# Altium footprint library Connector_PinSocket_2.54mm.PcbLib: 278 footprints (part 17 of 18)
Each footprint in its own frame and in the unit in brackets; x right, y up, seen from the top. Pads: shape width x height; smd on the part's side, far side on the other; paste and mask are expansions set on the pad; w line width, h text height; cw(c..) or ccw(c..) is an arc to the next point about the centre after c.
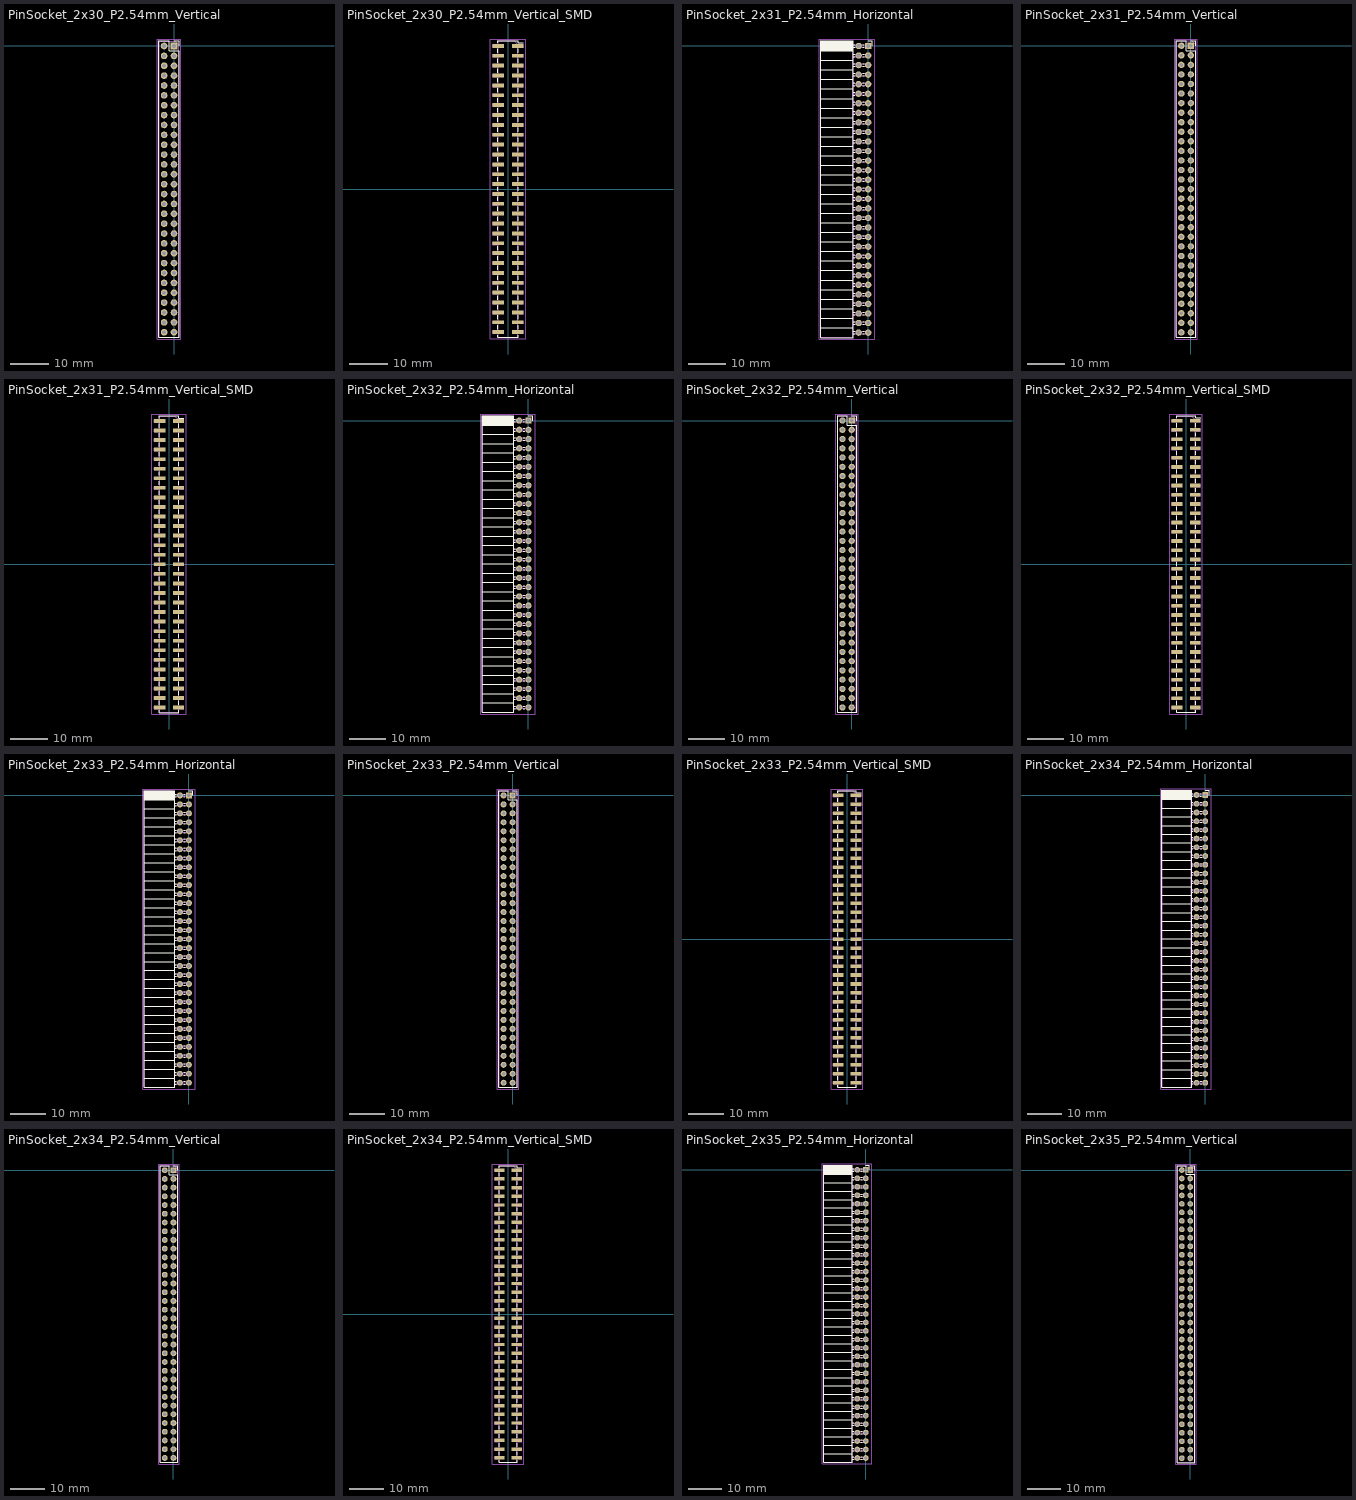
[diagram p16: the footprints below, top view; thin cyan lines are the x and y axes]

## PinSocket_2x30_P2.54mm_Vertical [mm]
pads (60):
  rect 1.7x1.7 hole 1: 1(0,0)
  round 1.7 hole 1: 2(-2.54,0) 3(0,-2.54) 4(-2.54,-2.54) 5(0,-5.08) 6(-2.54,-5.08) 7(0,-7.62) 8(-2.54,-7.62) 9(0,-10.16) 10(-2.54,-10.16) 11(0,-12.7) 12(-2.54,-12.7) 13(0,-15.24) 14(-2.54,-15.24) 15(0,-17.78) 16(-2.54,-17.78) 17(0,-20.32) 18(-2.54,-20.32) 19(0,-22.86) 20(-2.54,-22.86) 21(0,-25.4) 22(-2.54,-25.4) 23(0,-27.94) 24(-2.54,-27.94) 25(0,-30.48) 26(-2.54,-30.48) 27(0,-33.02) 28(-2.54,-33.02) 29(0,-35.56) 30(-2.54,-35.56) 31(0,-38.1) 32(-2.54,-38.1) 33(0,-40.64) 34(-2.54,-40.64) 35(0,-43.18) 36(-2.54,-43.18) 37(0,-45.72) 38(-2.54,-45.72) 39(0,-48.26) 40(-2.54,-48.26) 41(0,-50.8) 42(-2.54,-50.8) 43(0,-53.34) 44(-2.54,-53.34) 45(0,-55.88) 46(-2.54,-55.88) 47(0,-58.42) 48(-2.54,-58.42) 49(0,-60.96) 50(-2.54,-60.96) 51(0,-63.5) 52(-2.54,-63.5) 53(0,-66.04) 54(-2.54,-66.04) 55(0,-68.58) 56(-2.54,-68.58) 57(0,-71.12) 58(-2.54,-71.12) 59(0,-73.66) 60(-2.54,-73.66)
F.SilkS:
  lines w0.254: 0,1.33 1.33,1.33 1.33,0 ; -3.87,-74.99 1.33,-74.99 1.33,-1.27 -1.27,-1.27 -1.27,1.33 -3.87,1.33 -3.87,-74.99
Top Assembly:
  lines w0.254: -3.81,-74.93 1.27,-74.93 1.27,0.27 0.27,1.27 -3.81,1.27 -3.81,-74.93
  text "'.Designator'" at -0.43,-40.877 h1
Top Courtyard:
  lines w0.254: -4.34,-75.4 1.76,-75.4 1.76,1.8 -4.34,1.8 -4.34,-75.4
Top Designator:
  text ".Designator" at -8.908,-37.308 h1.52

## PinSocket_2x30_P2.54mm_Vertical_SMD [mm]
pads (60):
  rect 3x1 smd: 1(2.52,36.83) 2(-2.52,36.83) 3(2.52,34.29) 4(-2.52,34.29) 5(2.52,31.75) 6(-2.52,31.75) 7(2.52,29.21) 8(-2.52,29.21) 9(2.52,26.67) 10(-2.52,26.67) 11(2.52,24.13) 12(-2.52,24.13) 13(2.52,21.59) 14(-2.52,21.59) 15(2.52,19.05) 16(-2.52,19.05) 17(2.52,16.51) 18(-2.52,16.51) 19(2.52,13.97) 20(-2.52,13.97) 21(2.52,11.43) 22(-2.52,11.43) 23(2.52,8.89) 24(-2.52,8.89) 25(2.52,6.35) 26(-2.52,6.35) 27(2.52,3.81) 28(-2.52,3.81) 29(2.52,1.27) 30(-2.52,1.27) 31(2.52,-1.27) 32(-2.52,-1.27) 33(2.52,-3.81) 34(-2.52,-3.81) 35(2.52,-6.35) 36(-2.52,-6.35) 37(2.52,-8.89) 38(-2.52,-8.89) 39(2.52,-11.43) 40(-2.52,-11.43) 41(2.52,-13.97) 42(-2.52,-13.97) 43(2.52,-16.51) 44(-2.52,-16.51) 45(2.52,-19.05) 46(-2.52,-19.05) 47(2.52,-21.59) 48(-2.52,-21.59) 49(2.52,-24.13) 50(-2.52,-24.13) 51(2.52,-26.67) 52(-2.52,-26.67) 53(2.52,-29.21) 54(-2.52,-29.21) 55(2.52,-31.75) 56(-2.52,-31.75) 57(2.52,-34.29) 58(-2.52,-34.29) 59(2.52,-36.83) 60(-2.52,-36.83)
F.SilkS:
  lines w0.254: -2.6,-37.59 -2.6,-38.16 2.6,-38.16 2.6,-37.59 ; -2.6,-36.07 -2.6,-35.05 ; -2.6,-33.53 -2.6,-32.51 ; -2.6,-30.99 -2.6,-29.97 ; -2.6,-28.45 -2.6,-27.43 ; -2.6,-25.91 -2.6,-24.89 ; -2.6,-23.37 -2.6,-22.35 ; -2.6,-20.83 -2.6,-19.81 ; -2.6,-18.29 -2.6,-17.27 ; -2.6,-15.75 -2.6,-14.73 ; -2.6,-13.21 -2.6,-12.19 ; -2.6,-10.67 -2.6,-9.65 ; -2.6,-8.13 -2.6,-7.11 ; -2.6,-5.59 -2.6,-4.57 ; -2.6,-3.05 -2.6,-2.03 ; -2.6,-0.51 -2.6,0.51 ; -2.6,2.03 -2.6,3.05 ; -2.6,4.57 -2.6,5.59 ; -2.6,7.11 -2.6,8.13 ; -2.6,9.65 -2.6,10.67 ; -2.6,12.19 -2.6,13.21 ; -2.6,14.73 -2.6,15.75 ; -2.6,17.27 -2.6,18.29 ; -2.6,19.81 -2.6,20.83 ; -2.6,22.35 -2.6,23.37 ; -2.6,24.89 -2.6,25.91 ; -2.6,27.43 -2.6,28.45 ; -2.6,29.97 -2.6,30.99 ; -2.6,32.51 -2.6,33.53 ; -2.6,35.05 -2.6,36.07 ; -2.6,37.59 -2.6,38.16 2.6,38.16 2.6,37.59 3.96,37.59 ; 2.6,-36.07 2.6,-35.05 ; 2.6,-33.53 2.6,-32.51 ; 2.6,-30.99 2.6,-29.97 ; 2.6,-28.45 2.6,-27.43 ; 2.6,-25.91 2.6,-24.89 ; 2.6,-23.37 2.6,-22.35 ; 2.6,-20.83 2.6,-19.81 ; 2.6,-18.29 2.6,-17.27 ; 2.6,-15.75 2.6,-14.73 ; 2.6,-13.21 2.6,-12.19 ; 2.6,-10.67 2.6,-9.65 ; 2.6,-8.13 2.6,-7.11 ; 2.6,-5.59 2.6,-4.57 ; 2.6,-3.05 2.6,-2.03 ; 2.6,-0.51 2.6,0.51 ; 2.6,2.03 2.6,3.05 ; 2.6,4.57 2.6,5.59 ; 2.6,7.11 2.6,8.13 ; 2.6,9.65 2.6,10.67 ; 2.6,12.19 2.6,13.21 ; 2.6,14.73 2.6,15.75 ; 2.6,17.27 2.6,18.29 ; 2.6,19.81 2.6,20.83 ; 2.6,22.35 2.6,23.37 ; 2.6,24.89 2.6,25.91 ; 2.6,27.43 2.6,28.45 ; 2.6,29.97 2.6,30.99 ; 2.6,32.51 2.6,33.53 ; 2.6,35.05 2.6,36.07
Top Assembly:
  drawing of 185 lines, arcs and shapes, not listed
  text "'.Designator'" at 0.84,-4.047 h1
Top Courtyard:
  lines w0.254: -4.55,-38.6 4.5,-38.6 4.5,38.6 -4.55,38.6 -4.55,-38.6
Top Designator:
  text ".Designator" at -7.643,-0.508 h1.52

## PinSocket_2x31_P2.54mm_Horizontal [mm]
pads (62):
  rect 1.7x1.7 hole 1: 1(0,0)
  round 1.7 hole 1: 2(-2.54,0) 3(0,-2.54) 4(-2.54,-2.54) 5(0,-5.08) 6(-2.54,-5.08) 7(0,-7.62) 8(-2.54,-7.62) 9(0,-10.16) 10(-2.54,-10.16) 11(0,-12.7) 12(-2.54,-12.7) 13(0,-15.24) 14(-2.54,-15.24) 15(0,-17.78) 16(-2.54,-17.78) 17(0,-20.32) 18(-2.54,-20.32) 19(0,-22.86) 20(-2.54,-22.86) 21(0,-25.4) 22(-2.54,-25.4) 23(0,-27.94) 24(-2.54,-27.94) 25(0,-30.48) 26(-2.54,-30.48) 27(0,-33.02) 28(-2.54,-33.02) 29(0,-35.56) 30(-2.54,-35.56) 31(0,-38.1) 32(-2.54,-38.1) 33(0,-40.64) 34(-2.54,-40.64) 35(0,-43.18) 36(-2.54,-43.18) 37(0,-45.72) 38(-2.54,-45.72) 39(0,-48.26) 40(-2.54,-48.26) 41(0,-50.8) 42(-2.54,-50.8) 43(0,-53.34) 44(-2.54,-53.34) 45(0,-55.88) 46(-2.54,-55.88) 47(0,-58.42) 48(-2.54,-58.42) 49(0,-60.96) 50(-2.54,-60.96) 51(0,-63.5) 52(-2.54,-63.5) 53(0,-66.04) 54(-2.54,-66.04) 55(0,-68.58) 56(-2.54,-68.58) 57(0,-71.12) 58(-2.54,-71.12) 59(0,-73.66) 60(-2.54,-73.66) 61(0,-76.2) 62(-2.54,-76.2)
F.SilkS:
  drawing of 181 lines, arcs and shapes, not listed
Top Assembly:
  lines w0.254: -4.06,-76.5 0,-76.5 0,-75.9 -4.06,-75.9 ; -4.06,-73.96 0,-73.96 0,-73.36 -4.06,-73.36 ; -4.06,-71.42 0,-71.42 0,-70.82 -4.06,-70.82 ; -4.06,-68.88 0,-68.88 0,-68.28 -4.06,-68.28 ; -4.06,-66.34 0,-66.34 0,-65.74 -4.06,-65.74 ; -4.06,-63.8 0,-63.8 0,-63.2 -4.06,-63.2 ; -4.06,-61.26 0,-61.26 0,-60.66 -4.06,-60.66 ; -4.06,-58.72 0,-58.72 0,-58.12 -4.06,-58.12 ; -4.06,-56.18 0,-56.18 0,-55.58 -4.06,-55.58 ; -4.06,-53.64 0,-53.64 0,-53.04 -4.06,-53.04 ; -4.06,-51.1 0,-51.1 0,-50.5 -4.06,-50.5 ; -4.06,-48.56 0,-48.56 0,-47.96 -4.06,-47.96 ; -4.06,-46.02 0,-46.02 0,-45.42 -4.06,-45.42 ; -4.06,-43.48 0,-43.48 0,-42.88 -4.06,-42.88 ; -4.06,-40.94 0,-40.94 0,-40.34 -4.06,-40.34 ; -4.06,-38.4 0,-38.4 0,-37.8 -4.06,-37.8 ; -4.06,-35.86 0,-35.86 0,-35.26 -4.06,-35.26 ; -4.06,-33.32 0,-33.32 0,-32.72 -4.06,-32.72 ; -4.06,-30.78 0,-30.78 0,-30.18 -4.06,-30.18 ; -4.06,-28.24 0,-28.24 0,-27.64 -4.06,-27.64 ; -4.06,-25.7 0,-25.7 0,-25.1 -4.06,-25.1 ; -4.06,-23.16 0,-23.16 0,-22.56 -4.06,-22.56 ; -4.06,-20.62 0,-20.62 0,-20.02 -4.06,-20.02 ; -4.06,-18.08 0,-18.08 0,-17.48 -4.06,-17.48 ; -4.06,-15.54 0,-15.54 0,-14.94 -4.06,-14.94 ; -4.06,-13 0,-13 0,-12.4 -4.06,-12.4 ; -4.06,-10.46 0,-10.46 0,-9.86 -4.06,-9.86 ; -4.06,-7.92 0,-7.92 0,-7.32 -4.06,-7.32 ; -4.06,-5.38 0,-5.38 0,-4.78 -4.06,-4.78 ; -4.06,-2.84 0,-2.84 0,-2.24 -4.06,-2.24 ; -4.06,-0.3 0,-0.3 0,0.3 -4.06,0.3 ; -4.06,0.3 -4.06,-77.47 -12.57,-77.47 -12.57,1.27 -5.03,1.27 -4.06,0.3
  text "'.Designator'" at -7.475,-42.147 h1
Top Courtyard:
  lines w0.254: -13.05,-77.9 1.8,-77.9 1.8,1.85 -13.05,1.85 -13.05,-77.9
Top Designator:
  text ".Designator" at -13.243,-38.533 h1.52

## PinSocket_2x31_P2.54mm_Vertical [mm]
pads (62):
  rect 1.7x1.7 hole 1: 1(0,0)
  round 1.7 hole 1: 2(-2.54,0) 3(0,-2.54) 4(-2.54,-2.54) 5(0,-5.08) 6(-2.54,-5.08) 7(0,-7.62) 8(-2.54,-7.62) 9(0,-10.16) 10(-2.54,-10.16) 11(0,-12.7) 12(-2.54,-12.7) 13(0,-15.24) 14(-2.54,-15.24) 15(0,-17.78) 16(-2.54,-17.78) 17(0,-20.32) 18(-2.54,-20.32) 19(0,-22.86) 20(-2.54,-22.86) 21(0,-25.4) 22(-2.54,-25.4) 23(0,-27.94) 24(-2.54,-27.94) 25(0,-30.48) 26(-2.54,-30.48) 27(0,-33.02) 28(-2.54,-33.02) 29(0,-35.56) 30(-2.54,-35.56) 31(0,-38.1) 32(-2.54,-38.1) 33(0,-40.64) 34(-2.54,-40.64) 35(0,-43.18) 36(-2.54,-43.18) 37(0,-45.72) 38(-2.54,-45.72) 39(0,-48.26) 40(-2.54,-48.26) 41(0,-50.8) 42(-2.54,-50.8) 43(0,-53.34) 44(-2.54,-53.34) 45(0,-55.88) 46(-2.54,-55.88) 47(0,-58.42) 48(-2.54,-58.42) 49(0,-60.96) 50(-2.54,-60.96) 51(0,-63.5) 52(-2.54,-63.5) 53(0,-66.04) 54(-2.54,-66.04) 55(0,-68.58) 56(-2.54,-68.58) 57(0,-71.12) 58(-2.54,-71.12) 59(0,-73.66) 60(-2.54,-73.66) 61(0,-76.2) 62(-2.54,-76.2)
F.SilkS:
  lines w0.254: 0,1.33 1.33,1.33 1.33,0 ; -3.87,-77.53 1.33,-77.53 1.33,-1.27 -1.27,-1.27 -1.27,1.33 -3.87,1.33 -3.87,-77.53
Top Assembly:
  lines w0.254: -3.81,-77.47 1.27,-77.47 1.27,0.27 0.27,1.27 -3.81,1.27 -3.81,-77.47
  text "'.Designator'" at -0.43,-42.147 h1
Top Courtyard:
  lines w0.254: -4.34,-77.95 1.76,-77.95 1.76,1.8 -4.34,1.8 -4.34,-77.95
Top Designator:
  text ".Designator" at -8.908,-38.583 h1.52

## PinSocket_2x31_P2.54mm_Vertical_SMD [mm]
pads (62):
  rect 3x1 smd: 1(2.52,38.1) 2(-2.52,38.1) 3(2.52,35.56) 4(-2.52,35.56) 5(2.52,33.02) 6(-2.52,33.02) 7(2.52,30.48) 8(-2.52,30.48) 9(2.52,27.94) 10(-2.52,27.94) 11(2.52,25.4) 12(-2.52,25.4) 13(2.52,22.86) 14(-2.52,22.86) 15(2.52,20.32) 16(-2.52,20.32) 17(2.52,17.78) 18(-2.52,17.78) 19(2.52,15.24) 20(-2.52,15.24) 21(2.52,12.7) 22(-2.52,12.7) 23(2.52,10.16) 24(-2.52,10.16) 25(2.52,7.62) 26(-2.52,7.62) 27(2.52,5.08) 28(-2.52,5.08) 29(2.52,2.54) 30(-2.52,2.54) 31(2.52,0) 32(-2.52,0) 33(2.52,-2.54) 34(-2.52,-2.54) 35(2.52,-5.08) 36(-2.52,-5.08) 37(2.52,-7.62) 38(-2.52,-7.62) 39(2.52,-10.16) 40(-2.52,-10.16) 41(2.52,-12.7) 42(-2.52,-12.7) 43(2.52,-15.24) 44(-2.52,-15.24) 45(2.52,-17.78) 46(-2.52,-17.78) 47(2.52,-20.32) 48(-2.52,-20.32) 49(2.52,-22.86) 50(-2.52,-22.86) 51(2.52,-25.4) 52(-2.52,-25.4) 53(2.52,-27.94) 54(-2.52,-27.94) 55(2.52,-30.48) 56(-2.52,-30.48) 57(2.52,-33.02) 58(-2.52,-33.02) 59(2.52,-35.56) 60(-2.52,-35.56) 61(2.52,-38.1) 62(-2.52,-38.1)
F.SilkS:
  lines w0.254: -2.6,-38.86 -2.6,-39.43 2.6,-39.43 2.6,-38.86 ; -2.6,-37.34 -2.6,-36.32 ; -2.6,-34.8 -2.6,-33.78 ; -2.6,-32.26 -2.6,-31.24 ; -2.6,-29.72 -2.6,-28.7 ; -2.6,-27.18 -2.6,-26.16 ; -2.6,-24.64 -2.6,-23.62 ; -2.6,-22.1 -2.6,-21.08 ; -2.6,-19.56 -2.6,-18.54 ; -2.6,-17.02 -2.6,-16 ; -2.6,-14.48 -2.6,-13.46 ; -2.6,-11.94 -2.6,-10.92 ; -2.6,-9.4 -2.6,-8.38 ; -2.6,-6.86 -2.6,-5.84 ; -2.6,-4.32 -2.6,-3.3 ; -2.6,-1.78 -2.6,-0.76 ; -2.6,0.76 -2.6,1.78 ; -2.6,3.3 -2.6,4.32 ; -2.6,5.84 -2.6,6.86 ; -2.6,8.38 -2.6,9.4 ; -2.6,10.92 -2.6,11.94 ; -2.6,13.46 -2.6,14.48 ; -2.6,16 -2.6,17.02 ; -2.6,18.54 -2.6,19.56 ; -2.6,21.08 -2.6,22.1 ; -2.6,23.62 -2.6,24.64 ; -2.6,26.16 -2.6,27.18 ; -2.6,28.7 -2.6,29.72 ; -2.6,31.24 -2.6,32.26 ; -2.6,33.78 -2.6,34.8 ; -2.6,36.32 -2.6,37.34 ; -2.6,38.86 -2.6,39.43 2.6,39.43 2.6,38.86 3.96,38.86 ; 2.6,-37.34 2.6,-36.32 ; 2.6,-34.8 2.6,-33.78 ; 2.6,-32.26 2.6,-31.24 ; 2.6,-29.72 2.6,-28.7 ; 2.6,-27.18 2.6,-26.16 ; 2.6,-24.64 2.6,-23.62 ; 2.6,-22.1 2.6,-21.08 ; 2.6,-19.56 2.6,-18.54 ; 2.6,-17.02 2.6,-16 ; 2.6,-14.48 2.6,-13.46 ; 2.6,-11.94 2.6,-10.92 ; 2.6,-9.4 2.6,-8.38 ; 2.6,-6.86 2.6,-5.84 ; 2.6,-4.32 2.6,-3.3 ; 2.6,-1.78 2.6,-0.76 ; 2.6,0.76 2.6,1.78 ; 2.6,3.3 2.6,4.32 ; 2.6,5.84 2.6,6.86 ; 2.6,8.38 2.6,9.4 ; 2.6,10.92 2.6,11.94 ; 2.6,13.46 2.6,14.48 ; 2.6,16 2.6,17.02 ; 2.6,18.54 2.6,19.56 ; 2.6,21.08 2.6,22.1 ; 2.6,23.62 2.6,24.64 ; 2.6,26.16 2.6,27.18 ; 2.6,28.7 2.6,29.72 ; 2.6,31.24 2.6,32.26 ; 2.6,33.78 2.6,34.8 ; 2.6,36.32 2.6,37.34
Top Assembly:
  drawing of 191 lines, arcs and shapes, not listed
  text "'.Designator'" at 0.84,-4.047 h1
Top Courtyard:
  lines w0.254: -4.55,-39.8 4.5,-39.8 4.5,39.95 -4.55,39.95 -4.55,-39.8
Top Designator:
  text ".Designator" at -7.643,-0.433 h1.52

## PinSocket_2x32_P2.54mm_Horizontal [mm]
pads (64):
  rect 1.7x1.7 hole 1: 1(0,0)
  round 1.7 hole 1: 2(-2.54,0) 3(0,-2.54) 4(-2.54,-2.54) 5(0,-5.08) 6(-2.54,-5.08) 7(0,-7.62) 8(-2.54,-7.62) 9(0,-10.16) 10(-2.54,-10.16) 11(0,-12.7) 12(-2.54,-12.7) 13(0,-15.24) 14(-2.54,-15.24) 15(0,-17.78) 16(-2.54,-17.78) 17(0,-20.32) 18(-2.54,-20.32) 19(0,-22.86) 20(-2.54,-22.86) 21(0,-25.4) 22(-2.54,-25.4) 23(0,-27.94) 24(-2.54,-27.94) 25(0,-30.48) 26(-2.54,-30.48) 27(0,-33.02) 28(-2.54,-33.02) 29(0,-35.56) 30(-2.54,-35.56) 31(0,-38.1) 32(-2.54,-38.1) 33(0,-40.64) 34(-2.54,-40.64) 35(0,-43.18) 36(-2.54,-43.18) 37(0,-45.72) 38(-2.54,-45.72) 39(0,-48.26) 40(-2.54,-48.26) 41(0,-50.8) 42(-2.54,-50.8) 43(0,-53.34) 44(-2.54,-53.34) 45(0,-55.88) 46(-2.54,-55.88) 47(0,-58.42) 48(-2.54,-58.42) 49(0,-60.96) 50(-2.54,-60.96) 51(0,-63.5) 52(-2.54,-63.5) 53(0,-66.04) 54(-2.54,-66.04) 55(0,-68.58) 56(-2.54,-68.58) 57(0,-71.12) 58(-2.54,-71.12) 59(0,-73.66) 60(-2.54,-73.66) 61(0,-76.2) 62(-2.54,-76.2) 63(0,-78.74) 64(-2.54,-78.74)
F.SilkS:
  drawing of 186 lines, arcs and shapes, not listed
Top Assembly:
  lines w0.254: -4.06,-79.04 0,-79.04 0,-78.44 -4.06,-78.44 ; -4.06,-76.5 0,-76.5 0,-75.9 -4.06,-75.9 ; -4.06,-73.96 0,-73.96 0,-73.36 -4.06,-73.36 ; -4.06,-71.42 0,-71.42 0,-70.82 -4.06,-70.82 ; -4.06,-68.88 0,-68.88 0,-68.28 -4.06,-68.28 ; -4.06,-66.34 0,-66.34 0,-65.74 -4.06,-65.74 ; -4.06,-63.8 0,-63.8 0,-63.2 -4.06,-63.2 ; -4.06,-61.26 0,-61.26 0,-60.66 -4.06,-60.66 ; -4.06,-58.72 0,-58.72 0,-58.12 -4.06,-58.12 ; -4.06,-56.18 0,-56.18 0,-55.58 -4.06,-55.58 ; -4.06,-53.64 0,-53.64 0,-53.04 -4.06,-53.04 ; -4.06,-51.1 0,-51.1 0,-50.5 -4.06,-50.5 ; -4.06,-48.56 0,-48.56 0,-47.96 -4.06,-47.96 ; -4.06,-46.02 0,-46.02 0,-45.42 -4.06,-45.42 ; -4.06,-43.48 0,-43.48 0,-42.88 -4.06,-42.88 ; -4.06,-40.94 0,-40.94 0,-40.34 -4.06,-40.34 ; -4.06,-38.4 0,-38.4 0,-37.8 -4.06,-37.8 ; -4.06,-35.86 0,-35.86 0,-35.26 -4.06,-35.26 ; -4.06,-33.32 0,-33.32 0,-32.72 -4.06,-32.72 ; -4.06,-30.78 0,-30.78 0,-30.18 -4.06,-30.18 ; -4.06,-28.24 0,-28.24 0,-27.64 -4.06,-27.64 ; -4.06,-25.7 0,-25.7 0,-25.1 -4.06,-25.1 ; -4.06,-23.16 0,-23.16 0,-22.56 -4.06,-22.56 ; -4.06,-20.62 0,-20.62 0,-20.02 -4.06,-20.02 ; -4.06,-18.08 0,-18.08 0,-17.48 -4.06,-17.48 ; -4.06,-15.54 0,-15.54 0,-14.94 -4.06,-14.94 ; -4.06,-13 0,-13 0,-12.4 -4.06,-12.4 ; -4.06,-10.46 0,-10.46 0,-9.86 -4.06,-9.86 ; -4.06,-7.92 0,-7.92 0,-7.32 -4.06,-7.32 ; -4.06,-5.38 0,-5.38 0,-4.78 -4.06,-4.78 ; -4.06,-2.84 0,-2.84 0,-2.24 -4.06,-2.24 ; -4.06,-0.3 0,-0.3 0,0.3 -4.06,0.3 ; -4.06,0.3 -4.06,-80.01 -12.57,-80.01 -12.57,1.27 -5.03,1.27 -4.06,0.3
  text "'.Designator'" at -7.475,-43.417 h1
Top Courtyard:
  lines w0.254: -13.05,-80.55 1.8,-80.55 1.8,1.8 -13.05,1.8 -13.05,-80.55
Top Designator:
  text ".Designator" at -13.243,-39.883 h1.52

## PinSocket_2x32_P2.54mm_Vertical [mm]
pads (64):
  rect 1.7x1.7 hole 1: 1(0,0)
  round 1.7 hole 1: 2(-2.54,0) 3(0,-2.54) 4(-2.54,-2.54) 5(0,-5.08) 6(-2.54,-5.08) 7(0,-7.62) 8(-2.54,-7.62) 9(0,-10.16) 10(-2.54,-10.16) 11(0,-12.7) 12(-2.54,-12.7) 13(0,-15.24) 14(-2.54,-15.24) 15(0,-17.78) 16(-2.54,-17.78) 17(0,-20.32) 18(-2.54,-20.32) 19(0,-22.86) 20(-2.54,-22.86) 21(0,-25.4) 22(-2.54,-25.4) 23(0,-27.94) 24(-2.54,-27.94) 25(0,-30.48) 26(-2.54,-30.48) 27(0,-33.02) 28(-2.54,-33.02) 29(0,-35.56) 30(-2.54,-35.56) 31(0,-38.1) 32(-2.54,-38.1) 33(0,-40.64) 34(-2.54,-40.64) 35(0,-43.18) 36(-2.54,-43.18) 37(0,-45.72) 38(-2.54,-45.72) 39(0,-48.26) 40(-2.54,-48.26) 41(0,-50.8) 42(-2.54,-50.8) 43(0,-53.34) 44(-2.54,-53.34) 45(0,-55.88) 46(-2.54,-55.88) 47(0,-58.42) 48(-2.54,-58.42) 49(0,-60.96) 50(-2.54,-60.96) 51(0,-63.5) 52(-2.54,-63.5) 53(0,-66.04) 54(-2.54,-66.04) 55(0,-68.58) 56(-2.54,-68.58) 57(0,-71.12) 58(-2.54,-71.12) 59(0,-73.66) 60(-2.54,-73.66) 61(0,-76.2) 62(-2.54,-76.2) 63(0,-78.74) 64(-2.54,-78.74)
F.SilkS:
  lines w0.254: 0,1.33 1.33,1.33 1.33,0 ; -3.87,-80.07 1.33,-80.07 1.33,-1.27 -1.27,-1.27 -1.27,1.33 -3.87,1.33 -3.87,-80.07
Top Assembly:
  lines w0.254: -3.81,-80.01 1.27,-80.01 1.27,0.27 0.27,1.27 -3.81,1.27 -3.81,-80.01
  text "'.Designator'" at -0.43,-43.417 h1
Top Courtyard:
  lines w0.254: -4.34,-80.55 1.76,-80.55 1.76,1.8 -4.34,1.8 -4.34,-80.55
Top Designator:
  text ".Designator" at -8.908,-39.883 h1.52

## PinSocket_2x32_P2.54mm_Vertical_SMD [mm]
pads (64):
  rect 3x1 smd: 1(2.52,39.37) 2(-2.52,39.37) 3(2.52,36.83) 4(-2.52,36.83) 5(2.52,34.29) 6(-2.52,34.29) 7(2.52,31.75) 8(-2.52,31.75) 9(2.52,29.21) 10(-2.52,29.21) 11(2.52,26.67) 12(-2.52,26.67) 13(2.52,24.13) 14(-2.52,24.13) 15(2.52,21.59) 16(-2.52,21.59) 17(2.52,19.05) 18(-2.52,19.05) 19(2.52,16.51) 20(-2.52,16.51) 21(2.52,13.97) 22(-2.52,13.97) 23(2.52,11.43) 24(-2.52,11.43) 25(2.52,8.89) 26(-2.52,8.89) 27(2.52,6.35) 28(-2.52,6.35) 29(2.52,3.81) 30(-2.52,3.81) 31(2.52,1.27) 32(-2.52,1.27) 33(2.52,-1.27) 34(-2.52,-1.27) 35(2.52,-3.81) 36(-2.52,-3.81) 37(2.52,-6.35) 38(-2.52,-6.35) 39(2.52,-8.89) 40(-2.52,-8.89) 41(2.52,-11.43) 42(-2.52,-11.43) 43(2.52,-13.97) 44(-2.52,-13.97) 45(2.52,-16.51) 46(-2.52,-16.51) 47(2.52,-19.05) 48(-2.52,-19.05) 49(2.52,-21.59) 50(-2.52,-21.59) 51(2.52,-24.13) 52(-2.52,-24.13) 53(2.52,-26.67) 54(-2.52,-26.67) 55(2.52,-29.21) 56(-2.52,-29.21) 57(2.52,-31.75) 58(-2.52,-31.75) 59(2.52,-34.29) 60(-2.52,-34.29) 61(2.52,-36.83) 62(-2.52,-36.83) 63(2.52,-39.37) 64(-2.52,-39.37)
F.SilkS:
  lines w0.254: -2.6,-40.13 -2.6,-40.7 2.6,-40.7 2.6,-40.13 ; -2.6,-38.61 -2.6,-37.59 ; -2.6,-36.07 -2.6,-35.05 ; -2.6,-33.53 -2.6,-32.51 ; -2.6,-30.99 -2.6,-29.97 ; -2.6,-28.45 -2.6,-27.43 ; -2.6,-25.91 -2.6,-24.89 ; -2.6,-23.37 -2.6,-22.35 ; -2.6,-20.83 -2.6,-19.81 ; -2.6,-18.29 -2.6,-17.27 ; -2.6,-15.75 -2.6,-14.73 ; -2.6,-13.21 -2.6,-12.19 ; -2.6,-10.67 -2.6,-9.65 ; -2.6,-8.13 -2.6,-7.11 ; -2.6,-5.59 -2.6,-4.57 ; -2.6,-3.05 -2.6,-2.03 ; -2.6,-0.51 -2.6,0.51 ; -2.6,2.03 -2.6,3.05 ; -2.6,4.57 -2.6,5.59 ; -2.6,7.11 -2.6,8.13 ; -2.6,9.65 -2.6,10.67 ; -2.6,12.19 -2.6,13.21 ; -2.6,14.73 -2.6,15.75 ; -2.6,17.27 -2.6,18.29 ; -2.6,19.81 -2.6,20.83 ; -2.6,22.35 -2.6,23.37 ; -2.6,24.89 -2.6,25.91 ; -2.6,27.43 -2.6,28.45 ; -2.6,29.97 -2.6,30.99 ; -2.6,32.51 -2.6,33.53 ; -2.6,35.05 -2.6,36.07 ; -2.6,37.59 -2.6,38.61 ; -2.6,40.13 -2.6,40.7 2.6,40.7 2.6,40.13 3.96,40.13 ; 2.6,-38.61 2.6,-37.59 ; 2.6,-36.07 2.6,-35.05 ; 2.6,-33.53 2.6,-32.51 ; 2.6,-30.99 2.6,-29.97 ; 2.6,-28.45 2.6,-27.43 ; 2.6,-25.91 2.6,-24.89 ; 2.6,-23.37 2.6,-22.35 ; 2.6,-20.83 2.6,-19.81 ; 2.6,-18.29 2.6,-17.27 ; 2.6,-15.75 2.6,-14.73 ; 2.6,-13.21 2.6,-12.19 ; 2.6,-10.67 2.6,-9.65 ; 2.6,-8.13 2.6,-7.11 ; 2.6,-5.59 2.6,-4.57 ; 2.6,-3.05 2.6,-2.03 ; 2.6,-0.51 2.6,0.51 ; 2.6,2.03 2.6,3.05 ; 2.6,4.57 2.6,5.59 ; 2.6,7.11 2.6,8.13 ; 2.6,9.65 2.6,10.67 ; 2.6,12.19 2.6,13.21 ; 2.6,14.73 2.6,15.75 ; 2.6,17.27 2.6,18.29 ; 2.6,19.81 2.6,20.83 ; 2.6,22.35 2.6,23.37 ; 2.6,24.89 2.6,25.91 ; 2.6,27.43 2.6,28.45 ; 2.6,29.97 2.6,30.99 ; 2.6,32.51 2.6,33.53 ; 2.6,35.05 2.6,36.07 ; 2.6,37.59 2.6,38.61
Top Assembly:
  drawing of 197 lines, arcs and shapes, not listed
  text "'.Designator'" at 0.84,-4.047 h1
Top Courtyard:
  lines w0.254: -4.55,-41.15 4.5,-41.15 4.5,41.2 -4.55,41.2 -4.55,-41.15
Top Designator:
  text ".Designator" at -7.643,-0.483 h1.52

## PinSocket_2x33_P2.54mm_Horizontal [mm]
pads (66):
  rect 1.7x1.7 hole 1: 1(0,0)
  round 1.7 hole 1: 2(-2.54,0) 3(0,-2.54) 4(-2.54,-2.54) 5(0,-5.08) 6(-2.54,-5.08) 7(0,-7.62) 8(-2.54,-7.62) 9(0,-10.16) 10(-2.54,-10.16) 11(0,-12.7) 12(-2.54,-12.7) 13(0,-15.24) 14(-2.54,-15.24) 15(0,-17.78) 16(-2.54,-17.78) 17(0,-20.32) 18(-2.54,-20.32) 19(0,-22.86) 20(-2.54,-22.86) 21(0,-25.4) 22(-2.54,-25.4) 23(0,-27.94) 24(-2.54,-27.94) 25(0,-30.48) 26(-2.54,-30.48) 27(0,-33.02) 28(-2.54,-33.02) 29(0,-35.56) 30(-2.54,-35.56) 31(0,-38.1) 32(-2.54,-38.1) 33(0,-40.64) 34(-2.54,-40.64) 35(0,-43.18) 36(-2.54,-43.18) 37(0,-45.72) 38(-2.54,-45.72) 39(0,-48.26) 40(-2.54,-48.26) 41(0,-50.8) 42(-2.54,-50.8) 43(0,-53.34) 44(-2.54,-53.34) 45(0,-55.88) 46(-2.54,-55.88) 47(0,-58.42) 48(-2.54,-58.42) 49(0,-60.96) 50(-2.54,-60.96) 51(0,-63.5) 52(-2.54,-63.5) 53(0,-66.04) 54(-2.54,-66.04) 55(0,-68.58) 56(-2.54,-68.58) 57(0,-71.12) 58(-2.54,-71.12) 59(0,-73.66) 60(-2.54,-73.66) 61(0,-76.2) 62(-2.54,-76.2) 63(0,-78.74) 64(-2.54,-78.74) 65(0,-81.28) 66(-2.54,-81.28)
F.SilkS:
  drawing of 191 lines, arcs and shapes, not listed
Top Assembly:
  lines w0.254: -4.06,-81.58 0,-81.58 0,-80.98 -4.06,-80.98 ; -4.06,-79.04 0,-79.04 0,-78.44 -4.06,-78.44 ; -4.06,-76.5 0,-76.5 0,-75.9 -4.06,-75.9 ; -4.06,-73.96 0,-73.96 0,-73.36 -4.06,-73.36 ; -4.06,-71.42 0,-71.42 0,-70.82 -4.06,-70.82 ; -4.06,-68.88 0,-68.88 0,-68.28 -4.06,-68.28 ; -4.06,-66.34 0,-66.34 0,-65.74 -4.06,-65.74 ; -4.06,-63.8 0,-63.8 0,-63.2 -4.06,-63.2 ; -4.06,-61.26 0,-61.26 0,-60.66 -4.06,-60.66 ; -4.06,-58.72 0,-58.72 0,-58.12 -4.06,-58.12 ; -4.06,-56.18 0,-56.18 0,-55.58 -4.06,-55.58 ; -4.06,-53.64 0,-53.64 0,-53.04 -4.06,-53.04 ; -4.06,-51.1 0,-51.1 0,-50.5 -4.06,-50.5 ; -4.06,-48.56 0,-48.56 0,-47.96 -4.06,-47.96 ; -4.06,-46.02 0,-46.02 0,-45.42 -4.06,-45.42 ; -4.06,-43.48 0,-43.48 0,-42.88 -4.06,-42.88 ; -4.06,-40.94 0,-40.94 0,-40.34 -4.06,-40.34 ; -4.06,-38.4 0,-38.4 0,-37.8 -4.06,-37.8 ; -4.06,-35.86 0,-35.86 0,-35.26 -4.06,-35.26 ; -4.06,-33.32 0,-33.32 0,-32.72 -4.06,-32.72 ; -4.06,-30.78 0,-30.78 0,-30.18 -4.06,-30.18 ; -4.06,-28.24 0,-28.24 0,-27.64 -4.06,-27.64 ; -4.06,-25.7 0,-25.7 0,-25.1 -4.06,-25.1 ; -4.06,-23.16 0,-23.16 0,-22.56 -4.06,-22.56 ; -4.06,-20.62 0,-20.62 0,-20.02 -4.06,-20.02 ; -4.06,-18.08 0,-18.08 0,-17.48 -4.06,-17.48 ; -4.06,-15.54 0,-15.54 0,-14.94 -4.06,-14.94 ; -4.06,-13 0,-13 0,-12.4 -4.06,-12.4 ; -4.06,-10.46 0,-10.46 0,-9.86 -4.06,-9.86 ; -4.06,-7.92 0,-7.92 0,-7.32 -4.06,-7.32 ; -4.06,-5.38 0,-5.38 0,-4.78 -4.06,-4.78 ; -4.06,-2.84 0,-2.84 0,-2.24 -4.06,-2.24 ; -4.06,-0.3 0,-0.3 0,0.3 -4.06,0.3 ; -4.06,0.3 -4.06,-82.55 -12.57,-82.55 -12.57,1.27 -5.03,1.27 -4.06,0.3
  text "'.Designator'" at -7.475,-44.687 h1
Top Courtyard:
  lines w0.254: -13.05,-83.05 1.8,-83.05 1.8,1.8 -13.05,1.8 -13.05,-83.05
Top Designator:
  text ".Designator" at -13.243,-41.133 h1.52

## PinSocket_2x33_P2.54mm_Vertical [mm]
pads (66):
  rect 1.7x1.7 hole 1: 1(0,0)
  round 1.7 hole 1: 2(-2.54,0) 3(0,-2.54) 4(-2.54,-2.54) 5(0,-5.08) 6(-2.54,-5.08) 7(0,-7.62) 8(-2.54,-7.62) 9(0,-10.16) 10(-2.54,-10.16) 11(0,-12.7) 12(-2.54,-12.7) 13(0,-15.24) 14(-2.54,-15.24) 15(0,-17.78) 16(-2.54,-17.78) 17(0,-20.32) 18(-2.54,-20.32) 19(0,-22.86) 20(-2.54,-22.86) 21(0,-25.4) 22(-2.54,-25.4) 23(0,-27.94) 24(-2.54,-27.94) 25(0,-30.48) 26(-2.54,-30.48) 27(0,-33.02) 28(-2.54,-33.02) 29(0,-35.56) 30(-2.54,-35.56) 31(0,-38.1) 32(-2.54,-38.1) 33(0,-40.64) 34(-2.54,-40.64) 35(0,-43.18) 36(-2.54,-43.18) 37(0,-45.72) 38(-2.54,-45.72) 39(0,-48.26) 40(-2.54,-48.26) 41(0,-50.8) 42(-2.54,-50.8) 43(0,-53.34) 44(-2.54,-53.34) 45(0,-55.88) 46(-2.54,-55.88) 47(0,-58.42) 48(-2.54,-58.42) 49(0,-60.96) 50(-2.54,-60.96) 51(0,-63.5) 52(-2.54,-63.5) 53(0,-66.04) 54(-2.54,-66.04) 55(0,-68.58) 56(-2.54,-68.58) 57(0,-71.12) 58(-2.54,-71.12) 59(0,-73.66) 60(-2.54,-73.66) 61(0,-76.2) 62(-2.54,-76.2) 63(0,-78.74) 64(-2.54,-78.74) 65(0,-81.28) 66(-2.54,-81.28)
F.SilkS:
  lines w0.254: 0,1.33 1.33,1.33 1.33,0 ; -3.87,-82.61 1.33,-82.61 1.33,-1.27 -1.27,-1.27 -1.27,1.33 -3.87,1.33 -3.87,-82.61
Top Assembly:
  lines w0.254: -3.81,-82.55 1.27,-82.55 1.27,0.27 0.27,1.27 -3.81,1.27 -3.81,-82.55
  text "'.Designator'" at -0.43,-44.687 h1
Top Courtyard:
  lines w0.254: -4.34,-83.05 1.76,-83.05 1.76,1.8 -4.34,1.8 -4.34,-83.05
Top Designator:
  text ".Designator" at -8.908,-41.133 h1.52

## PinSocket_2x33_P2.54mm_Vertical_SMD [mm]
pads (66):
  rect 3x1 smd: 1(2.52,40.64) 2(-2.52,40.64) 3(2.52,38.1) 4(-2.52,38.1) 5(2.52,35.56) 6(-2.52,35.56) 7(2.52,33.02) 8(-2.52,33.02) 9(2.52,30.48) 10(-2.52,30.48) 11(2.52,27.94) 12(-2.52,27.94) 13(2.52,25.4) 14(-2.52,25.4) 15(2.52,22.86) 16(-2.52,22.86) 17(2.52,20.32) 18(-2.52,20.32) 19(2.52,17.78) 20(-2.52,17.78) 21(2.52,15.24) 22(-2.52,15.24) 23(2.52,12.7) 24(-2.52,12.7) 25(2.52,10.16) 26(-2.52,10.16) 27(2.52,7.62) 28(-2.52,7.62) 29(2.52,5.08) 30(-2.52,5.08) 31(2.52,2.54) 32(-2.52,2.54) 33(2.52,0) 34(-2.52,0) 35(2.52,-2.54) 36(-2.52,-2.54) 37(2.52,-5.08) 38(-2.52,-5.08) 39(2.52,-7.62) 40(-2.52,-7.62) 41(2.52,-10.16) 42(-2.52,-10.16) 43(2.52,-12.7) 44(-2.52,-12.7) 45(2.52,-15.24) 46(-2.52,-15.24) 47(2.52,-17.78) 48(-2.52,-17.78) 49(2.52,-20.32) 50(-2.52,-20.32) 51(2.52,-22.86) 52(-2.52,-22.86) 53(2.52,-25.4) 54(-2.52,-25.4) 55(2.52,-27.94) 56(-2.52,-27.94) 57(2.52,-30.48) 58(-2.52,-30.48) 59(2.52,-33.02) 60(-2.52,-33.02) 61(2.52,-35.56) 62(-2.52,-35.56) 63(2.52,-38.1) 64(-2.52,-38.1) 65(2.52,-40.64) 66(-2.52,-40.64)
F.SilkS:
  lines w0.254: -2.6,-41.4 -2.6,-41.97 2.6,-41.97 2.6,-41.4 ; -2.6,-39.88 -2.6,-38.86 ; -2.6,-37.34 -2.6,-36.32 ; -2.6,-34.8 -2.6,-33.78 ; -2.6,-32.26 -2.6,-31.24 ; -2.6,-29.72 -2.6,-28.7 ; -2.6,-27.18 -2.6,-26.16 ; -2.6,-24.64 -2.6,-23.62 ; -2.6,-22.1 -2.6,-21.08 ; -2.6,-19.56 -2.6,-18.54 ; -2.6,-17.02 -2.6,-16 ; -2.6,-14.48 -2.6,-13.46 ; -2.6,-11.94 -2.6,-10.92 ; -2.6,-9.4 -2.6,-8.38 ; -2.6,-6.86 -2.6,-5.84 ; -2.6,-4.32 -2.6,-3.3 ; -2.6,-1.78 -2.6,-0.76 ; -2.6,0.76 -2.6,1.78 ; -2.6,3.3 -2.6,4.32 ; -2.6,5.84 -2.6,6.86 ; -2.6,8.38 -2.6,9.4 ; -2.6,10.92 -2.6,11.94 ; -2.6,13.46 -2.6,14.48 ; -2.6,16 -2.6,17.02 ; -2.6,18.54 -2.6,19.56 ; -2.6,21.08 -2.6,22.1 ; -2.6,23.62 -2.6,24.64 ; -2.6,26.16 -2.6,27.18 ; -2.6,28.7 -2.6,29.72 ; -2.6,31.24 -2.6,32.26 ; -2.6,33.78 -2.6,34.8 ; -2.6,36.32 -2.6,37.34 ; -2.6,38.86 -2.6,39.88 ; -2.6,41.4 -2.6,41.97 2.6,41.97 2.6,41.4 3.96,41.4 ; 2.6,-39.88 2.6,-38.86 ; 2.6,-37.34 2.6,-36.32 ; 2.6,-34.8 2.6,-33.78 ; 2.6,-32.26 2.6,-31.24 ; 2.6,-29.72 2.6,-28.7 ; 2.6,-27.18 2.6,-26.16 ; 2.6,-24.64 2.6,-23.62 ; 2.6,-22.1 2.6,-21.08 ; 2.6,-19.56 2.6,-18.54 ; 2.6,-17.02 2.6,-16 ; 2.6,-14.48 2.6,-13.46 ; 2.6,-11.94 2.6,-10.92 ; 2.6,-9.4 2.6,-8.38 ; 2.6,-6.86 2.6,-5.84 ; 2.6,-4.32 2.6,-3.3 ; 2.6,-1.78 2.6,-0.76 ; 2.6,0.76 2.6,1.78 ; 2.6,3.3 2.6,4.32 ; 2.6,5.84 2.6,6.86 ; 2.6,8.38 2.6,9.4 ; 2.6,10.92 2.6,11.94 ; 2.6,13.46 2.6,14.48 ; 2.6,16 2.6,17.02 ; 2.6,18.54 2.6,19.56 ; 2.6,21.08 2.6,22.1 ; 2.6,23.62 2.6,24.64 ; 2.6,26.16 2.6,27.18 ; 2.6,28.7 2.6,29.72 ; 2.6,31.24 2.6,32.26 ; 2.6,33.78 2.6,34.8 ; 2.6,36.32 2.6,37.34 ; 2.6,38.86 2.6,39.88
Top Assembly:
  drawing of 203 lines, arcs and shapes, not listed
  text "'.Designator'" at 0.84,-4.047 h1
Top Courtyard:
  lines w0.254: -4.55,-42.4 4.5,-42.4 4.5,42.45 -4.55,42.45 -4.55,-42.4
Top Designator:
  text ".Designator" at -7.643,-0.483 h1.52

## PinSocket_2x34_P2.54mm_Horizontal [mm]
pads (68):
  rect 1.7x1.7 hole 1: 1(0,0)
  round 1.7 hole 1: 2(-2.54,0) 3(0,-2.54) 4(-2.54,-2.54) 5(0,-5.08) 6(-2.54,-5.08) 7(0,-7.62) 8(-2.54,-7.62) 9(0,-10.16) 10(-2.54,-10.16) 11(0,-12.7) 12(-2.54,-12.7) 13(0,-15.24) 14(-2.54,-15.24) 15(0,-17.78) 16(-2.54,-17.78) 17(0,-20.32) 18(-2.54,-20.32) 19(0,-22.86) 20(-2.54,-22.86) 21(0,-25.4) 22(-2.54,-25.4) 23(0,-27.94) 24(-2.54,-27.94) 25(0,-30.48) 26(-2.54,-30.48) 27(0,-33.02) 28(-2.54,-33.02) 29(0,-35.56) 30(-2.54,-35.56) 31(0,-38.1) 32(-2.54,-38.1) 33(0,-40.64) 34(-2.54,-40.64) 35(0,-43.18) 36(-2.54,-43.18) 37(0,-45.72) 38(-2.54,-45.72) 39(0,-48.26) 40(-2.54,-48.26) 41(0,-50.8) 42(-2.54,-50.8) 43(0,-53.34) 44(-2.54,-53.34) 45(0,-55.88) 46(-2.54,-55.88) 47(0,-58.42) 48(-2.54,-58.42) 49(0,-60.96) 50(-2.54,-60.96) 51(0,-63.5) 52(-2.54,-63.5) 53(0,-66.04) 54(-2.54,-66.04) 55(0,-68.58) 56(-2.54,-68.58) 57(0,-71.12) 58(-2.54,-71.12) 59(0,-73.66) 60(-2.54,-73.66) 61(0,-76.2) 62(-2.54,-76.2) 63(0,-78.74) 64(-2.54,-78.74) 65(0,-81.28) 66(-2.54,-81.28) 67(0,-83.82) 68(-2.54,-83.82)
F.SilkS:
  drawing of 196 lines, arcs and shapes, not listed
Top Assembly:
  lines w0.254: -4.06,-84.12 0,-84.12 0,-83.52 -4.06,-83.52 ; -4.06,-81.58 0,-81.58 0,-80.98 -4.06,-80.98 ; -4.06,-79.04 0,-79.04 0,-78.44 -4.06,-78.44 ; -4.06,-76.5 0,-76.5 0,-75.9 -4.06,-75.9 ; -4.06,-73.96 0,-73.96 0,-73.36 -4.06,-73.36 ; -4.06,-71.42 0,-71.42 0,-70.82 -4.06,-70.82 ; -4.06,-68.88 0,-68.88 0,-68.28 -4.06,-68.28 ; -4.06,-66.34 0,-66.34 0,-65.74 -4.06,-65.74 ; -4.06,-63.8 0,-63.8 0,-63.2 -4.06,-63.2 ; -4.06,-61.26 0,-61.26 0,-60.66 -4.06,-60.66 ; -4.06,-58.72 0,-58.72 0,-58.12 -4.06,-58.12 ; -4.06,-56.18 0,-56.18 0,-55.58 -4.06,-55.58 ; -4.06,-53.64 0,-53.64 0,-53.04 -4.06,-53.04 ; -4.06,-51.1 0,-51.1 0,-50.5 -4.06,-50.5 ; -4.06,-48.56 0,-48.56 0,-47.96 -4.06,-47.96 ; -4.06,-46.02 0,-46.02 0,-45.42 -4.06,-45.42 ; -4.06,-43.48 0,-43.48 0,-42.88 -4.06,-42.88 ; -4.06,-40.94 0,-40.94 0,-40.34 -4.06,-40.34 ; -4.06,-38.4 0,-38.4 0,-37.8 -4.06,-37.8 ; -4.06,-35.86 0,-35.86 0,-35.26 -4.06,-35.26 ; -4.06,-33.32 0,-33.32 0,-32.72 -4.06,-32.72 ; -4.06,-30.78 0,-30.78 0,-30.18 -4.06,-30.18 ; -4.06,-28.24 0,-28.24 0,-27.64 -4.06,-27.64 ; -4.06,-25.7 0,-25.7 0,-25.1 -4.06,-25.1 ; -4.06,-23.16 0,-23.16 0,-22.56 -4.06,-22.56 ; -4.06,-20.62 0,-20.62 0,-20.02 -4.06,-20.02 ; -4.06,-18.08 0,-18.08 0,-17.48 -4.06,-17.48 ; -4.06,-15.54 0,-15.54 0,-14.94 -4.06,-14.94 ; -4.06,-13 0,-13 0,-12.4 -4.06,-12.4 ; -4.06,-10.46 0,-10.46 0,-9.86 -4.06,-9.86 ; -4.06,-7.92 0,-7.92 0,-7.32 -4.06,-7.32 ; -4.06,-5.38 0,-5.38 0,-4.78 -4.06,-4.78 ; -4.06,-2.84 0,-2.84 0,-2.24 -4.06,-2.24 ; -4.06,-0.3 0,-0.3 0,0.3 -4.06,0.3 ; -4.06,0.3 -4.06,-85.09 -12.57,-85.09 -12.57,1.27 -5.03,1.27 -4.06,0.3
  text "'.Designator'" at -7.475,-45.957 h1
Top Courtyard:
  lines w0.254: -13.05,-85.65 1.8,-85.65 1.8,1.75 -13.05,1.75 -13.05,-85.65
Top Designator:
  text ".Designator" at -13.243,-42.458 h1.52

## PinSocket_2x34_P2.54mm_Vertical [mm]
pads (68):
  rect 1.7x1.7 hole 1: 1(0,0)
  round 1.7 hole 1: 2(-2.54,0) 3(0,-2.54) 4(-2.54,-2.54) 5(0,-5.08) 6(-2.54,-5.08) 7(0,-7.62) 8(-2.54,-7.62) 9(0,-10.16) 10(-2.54,-10.16) 11(0,-12.7) 12(-2.54,-12.7) 13(0,-15.24) 14(-2.54,-15.24) 15(0,-17.78) 16(-2.54,-17.78) 17(0,-20.32) 18(-2.54,-20.32) 19(0,-22.86) 20(-2.54,-22.86) 21(0,-25.4) 22(-2.54,-25.4) 23(0,-27.94) 24(-2.54,-27.94) 25(0,-30.48) 26(-2.54,-30.48) 27(0,-33.02) 28(-2.54,-33.02) 29(0,-35.56) 30(-2.54,-35.56) 31(0,-38.1) 32(-2.54,-38.1) 33(0,-40.64) 34(-2.54,-40.64) 35(0,-43.18) 36(-2.54,-43.18) 37(0,-45.72) 38(-2.54,-45.72) 39(0,-48.26) 40(-2.54,-48.26) 41(0,-50.8) 42(-2.54,-50.8) 43(0,-53.34) 44(-2.54,-53.34) 45(0,-55.88) 46(-2.54,-55.88) 47(0,-58.42) 48(-2.54,-58.42) 49(0,-60.96) 50(-2.54,-60.96) 51(0,-63.5) 52(-2.54,-63.5) 53(0,-66.04) 54(-2.54,-66.04) 55(0,-68.58) 56(-2.54,-68.58) 57(0,-71.12) 58(-2.54,-71.12) 59(0,-73.66) 60(-2.54,-73.66) 61(0,-76.2) 62(-2.54,-76.2) 63(0,-78.74) 64(-2.54,-78.74) 65(0,-81.28) 66(-2.54,-81.28) 67(0,-83.82) 68(-2.54,-83.82)
F.SilkS:
  lines w0.254: 0,1.33 1.33,1.33 1.33,0 ; -3.87,-85.15 1.33,-85.15 1.33,-1.27 -1.27,-1.27 -1.27,1.33 -3.87,1.33 -3.87,-85.15
Top Assembly:
  lines w0.254: -3.81,-85.09 1.27,-85.09 1.27,0.27 0.27,1.27 -3.81,1.27 -3.81,-85.09
  text "'.Designator'" at -0.43,-45.957 h1
Top Courtyard:
  lines w0.254: -4.34,-85.6 1.76,-85.6 1.76,1.8 -4.34,1.8 -4.34,-85.6
Top Designator:
  text ".Designator" at -8.908,-42.408 h1.52

## PinSocket_2x34_P2.54mm_Vertical_SMD [mm]
pads (68):
  rect 3x1 smd: 1(2.52,41.91) 2(-2.52,41.91) 3(2.52,39.37) 4(-2.52,39.37) 5(2.52,36.83) 6(-2.52,36.83) 7(2.52,34.29) 8(-2.52,34.29) 9(2.52,31.75) 10(-2.52,31.75) 11(2.52,29.21) 12(-2.52,29.21) 13(2.52,26.67) 14(-2.52,26.67) 15(2.52,24.13) 16(-2.52,24.13) 17(2.52,21.59) 18(-2.52,21.59) 19(2.52,19.05) 20(-2.52,19.05) 21(2.52,16.51) 22(-2.52,16.51) 23(2.52,13.97) 24(-2.52,13.97) 25(2.52,11.43) 26(-2.52,11.43) 27(2.52,8.89) 28(-2.52,8.89) 29(2.52,6.35) 30(-2.52,6.35) 31(2.52,3.81) 32(-2.52,3.81) 33(2.52,1.27) 34(-2.52,1.27) 35(2.52,-1.27) 36(-2.52,-1.27) 37(2.52,-3.81) 38(-2.52,-3.81) 39(2.52,-6.35) 40(-2.52,-6.35) 41(2.52,-8.89) 42(-2.52,-8.89) 43(2.52,-11.43) 44(-2.52,-11.43) 45(2.52,-13.97) 46(-2.52,-13.97) 47(2.52,-16.51) 48(-2.52,-16.51) 49(2.52,-19.05) 50(-2.52,-19.05) 51(2.52,-21.59) 52(-2.52,-21.59) 53(2.52,-24.13) 54(-2.52,-24.13) 55(2.52,-26.67) 56(-2.52,-26.67) 57(2.52,-29.21) 58(-2.52,-29.21) 59(2.52,-31.75) 60(-2.52,-31.75) 61(2.52,-34.29) 62(-2.52,-34.29) 63(2.52,-36.83) 64(-2.52,-36.83) 65(2.52,-39.37) 66(-2.52,-39.37) 67(2.52,-41.91) 68(-2.52,-41.91)
F.SilkS:
  lines w0.254: -2.6,-42.67 -2.6,-43.24 2.6,-43.24 2.6,-42.67 ; -2.6,-41.15 -2.6,-40.13 ; -2.6,-38.61 -2.6,-37.59 ; -2.6,-36.07 -2.6,-35.05 ; -2.6,-33.53 -2.6,-32.51 ; -2.6,-30.99 -2.6,-29.97 ; -2.6,-28.45 -2.6,-27.43 ; -2.6,-25.91 -2.6,-24.89 ; -2.6,-23.37 -2.6,-22.35 ; -2.6,-20.83 -2.6,-19.81 ; -2.6,-18.29 -2.6,-17.27 ; -2.6,-15.75 -2.6,-14.73 ; -2.6,-13.21 -2.6,-12.19 ; -2.6,-10.67 -2.6,-9.65 ; -2.6,-8.13 -2.6,-7.11 ; -2.6,-5.59 -2.6,-4.57 ; -2.6,-3.05 -2.6,-2.03 ; -2.6,-0.51 -2.6,0.51 ; -2.6,2.03 -2.6,3.05 ; -2.6,4.57 -2.6,5.59 ; -2.6,7.11 -2.6,8.13 ; -2.6,9.65 -2.6,10.67 ; -2.6,12.19 -2.6,13.21 ; -2.6,14.73 -2.6,15.75 ; -2.6,17.27 -2.6,18.29 ; -2.6,19.81 -2.6,20.83 ; -2.6,22.35 -2.6,23.37 ; -2.6,24.89 -2.6,25.91 ; -2.6,27.43 -2.6,28.45 ; -2.6,29.97 -2.6,30.99 ; -2.6,32.51 -2.6,33.53 ; -2.6,35.05 -2.6,36.07 ; -2.6,37.59 -2.6,38.61 ; -2.6,40.13 -2.6,41.15 ; -2.6,42.67 -2.6,43.24 2.6,43.24 2.6,42.67 3.96,42.67 ; 2.6,-41.15 2.6,-40.13 ; 2.6,-38.61 2.6,-37.59 ; 2.6,-36.07 2.6,-35.05 ; 2.6,-33.53 2.6,-32.51 ; 2.6,-30.99 2.6,-29.97 ; 2.6,-28.45 2.6,-27.43 ; 2.6,-25.91 2.6,-24.89 ; 2.6,-23.37 2.6,-22.35 ; 2.6,-20.83 2.6,-19.81 ; 2.6,-18.29 2.6,-17.27 ; 2.6,-15.75 2.6,-14.73 ; 2.6,-13.21 2.6,-12.19 ; 2.6,-10.67 2.6,-9.65 ; 2.6,-8.13 2.6,-7.11 ; 2.6,-5.59 2.6,-4.57 ; 2.6,-3.05 2.6,-2.03 ; 2.6,-0.51 2.6,0.51 ; 2.6,2.03 2.6,3.05 ; 2.6,4.57 2.6,5.59 ; 2.6,7.11 2.6,8.13 ; 2.6,9.65 2.6,10.67 ; 2.6,12.19 2.6,13.21 ; 2.6,14.73 2.6,15.75 ; 2.6,17.27 2.6,18.29 ; 2.6,19.81 2.6,20.83 ; 2.6,22.35 2.6,23.37 ; 2.6,24.89 2.6,25.91 ; 2.6,27.43 2.6,28.45 ; 2.6,29.97 2.6,30.99 ; 2.6,32.51 2.6,33.53 ; 2.6,35.05 2.6,36.07 ; 2.6,37.59 2.6,38.61 ; 2.6,40.13 2.6,41.15
Top Assembly:
  drawing of 209 lines, arcs and shapes, not listed
  text "'.Designator'" at 0.84,-4.047 h1
Top Courtyard:
  lines w0.254: -4.55,-43.7 4.5,-43.7 4.5,43.7 -4.55,43.7 -4.55,-43.7
Top Designator:
  text ".Designator" at -7.643,-0.508 h1.52

## PinSocket_2x35_P2.54mm_Horizontal [mm]
pads (70):
  rect 1.7x1.7 hole 1: 1(0,0)
  round 1.7 hole 1: 2(-2.54,0) 3(0,-2.54) 4(-2.54,-2.54) 5(0,-5.08) 6(-2.54,-5.08) 7(0,-7.62) 8(-2.54,-7.62) 9(0,-10.16) 10(-2.54,-10.16) 11(0,-12.7) 12(-2.54,-12.7) 13(0,-15.24) 14(-2.54,-15.24) 15(0,-17.78) 16(-2.54,-17.78) 17(0,-20.32) 18(-2.54,-20.32) 19(0,-22.86) 20(-2.54,-22.86) 21(0,-25.4) 22(-2.54,-25.4) 23(0,-27.94) 24(-2.54,-27.94) 25(0,-30.48) 26(-2.54,-30.48) 27(0,-33.02) 28(-2.54,-33.02) 29(0,-35.56) 30(-2.54,-35.56) 31(0,-38.1) 32(-2.54,-38.1) 33(0,-40.64) 34(-2.54,-40.64) 35(0,-43.18) 36(-2.54,-43.18) 37(0,-45.72) 38(-2.54,-45.72) 39(0,-48.26) 40(-2.54,-48.26) 41(0,-50.8) 42(-2.54,-50.8) 43(0,-53.34) 44(-2.54,-53.34) 45(0,-55.88) 46(-2.54,-55.88) 47(0,-58.42) 48(-2.54,-58.42) 49(0,-60.96) 50(-2.54,-60.96) 51(0,-63.5) 52(-2.54,-63.5) 53(0,-66.04) 54(-2.54,-66.04) 55(0,-68.58) 56(-2.54,-68.58) 57(0,-71.12) 58(-2.54,-71.12) 59(0,-73.66) 60(-2.54,-73.66) 61(0,-76.2) 62(-2.54,-76.2) 63(0,-78.74) 64(-2.54,-78.74) 65(0,-81.28) 66(-2.54,-81.28) 67(0,-83.82) 68(-2.54,-83.82) 69(0,-86.36) 70(-2.54,-86.36)
F.SilkS:
  drawing of 201 lines, arcs and shapes, not listed
Top Assembly:
  lines w0.254: -4.06,-86.66 0,-86.66 0,-86.06 -4.06,-86.06 ; -4.06,-84.12 0,-84.12 0,-83.52 -4.06,-83.52 ; -4.06,-81.58 0,-81.58 0,-80.98 -4.06,-80.98 ; -4.06,-79.04 0,-79.04 0,-78.44 -4.06,-78.44 ; -4.06,-76.5 0,-76.5 0,-75.9 -4.06,-75.9 ; -4.06,-73.96 0,-73.96 0,-73.36 -4.06,-73.36 ; -4.06,-71.42 0,-71.42 0,-70.82 -4.06,-70.82 ; -4.06,-68.88 0,-68.88 0,-68.28 -4.06,-68.28 ; -4.06,-66.34 0,-66.34 0,-65.74 -4.06,-65.74 ; -4.06,-63.8 0,-63.8 0,-63.2 -4.06,-63.2 ; -4.06,-61.26 0,-61.26 0,-60.66 -4.06,-60.66 ; -4.06,-58.72 0,-58.72 0,-58.12 -4.06,-58.12 ; -4.06,-56.18 0,-56.18 0,-55.58 -4.06,-55.58 ; -4.06,-53.64 0,-53.64 0,-53.04 -4.06,-53.04 ; -4.06,-51.1 0,-51.1 0,-50.5 -4.06,-50.5 ; -4.06,-48.56 0,-48.56 0,-47.96 -4.06,-47.96 ; -4.06,-46.02 0,-46.02 0,-45.42 -4.06,-45.42 ; -4.06,-43.48 0,-43.48 0,-42.88 -4.06,-42.88 ; -4.06,-40.94 0,-40.94 0,-40.34 -4.06,-40.34 ; -4.06,-38.4 0,-38.4 0,-37.8 -4.06,-37.8 ; -4.06,-35.86 0,-35.86 0,-35.26 -4.06,-35.26 ; -4.06,-33.32 0,-33.32 0,-32.72 -4.06,-32.72 ; -4.06,-30.78 0,-30.78 0,-30.18 -4.06,-30.18 ; -4.06,-28.24 0,-28.24 0,-27.64 -4.06,-27.64 ; -4.06,-25.7 0,-25.7 0,-25.1 -4.06,-25.1 ; -4.06,-23.16 0,-23.16 0,-22.56 -4.06,-22.56 ; -4.06,-20.62 0,-20.62 0,-20.02 -4.06,-20.02 ; -4.06,-18.08 0,-18.08 0,-17.48 -4.06,-17.48 ; -4.06,-15.54 0,-15.54 0,-14.94 -4.06,-14.94 ; -4.06,-13 0,-13 0,-12.4 -4.06,-12.4 ; -4.06,-10.46 0,-10.46 0,-9.86 -4.06,-9.86 ; -4.06,-7.92 0,-7.92 0,-7.32 -4.06,-7.32 ; -4.06,-5.38 0,-5.38 0,-4.78 -4.06,-4.78 ; -4.06,-2.84 0,-2.84 0,-2.24 -4.06,-2.24 ; -4.06,-0.3 0,-0.3 0,0.3 -4.06,0.3 ; -4.06,0.3 -4.06,-87.63 -12.57,-87.63 -12.57,1.27 -5.03,1.27 -4.06,0.3
  text "'.Designator'" at -7.475,-47.227 h1
Top Courtyard:
  lines w0.254: -13.05,-88.15 1.8,-88.15 1.8,1.75 -13.05,1.75 -13.05,-88.15
Top Designator:
  text ".Designator" at -13.243,-43.708 h1.52

## PinSocket_2x35_P2.54mm_Vertical [mm]
pads (70):
  rect 1.7x1.7 hole 1: 1(0,0)
  round 1.7 hole 1: 2(-2.54,0) 3(0,-2.54) 4(-2.54,-2.54) 5(0,-5.08) 6(-2.54,-5.08) 7(0,-7.62) 8(-2.54,-7.62) 9(0,-10.16) 10(-2.54,-10.16) 11(0,-12.7) 12(-2.54,-12.7) 13(0,-15.24) 14(-2.54,-15.24) 15(0,-17.78) 16(-2.54,-17.78) 17(0,-20.32) 18(-2.54,-20.32) 19(0,-22.86) 20(-2.54,-22.86) 21(0,-25.4) 22(-2.54,-25.4) 23(0,-27.94) 24(-2.54,-27.94) 25(0,-30.48) 26(-2.54,-30.48) 27(0,-33.02) 28(-2.54,-33.02) 29(0,-35.56) 30(-2.54,-35.56) 31(0,-38.1) 32(-2.54,-38.1) 33(0,-40.64) 34(-2.54,-40.64) 35(0,-43.18) 36(-2.54,-43.18) 37(0,-45.72) 38(-2.54,-45.72) 39(0,-48.26) 40(-2.54,-48.26) 41(0,-50.8) 42(-2.54,-50.8) 43(0,-53.34) 44(-2.54,-53.34) 45(0,-55.88) 46(-2.54,-55.88) 47(0,-58.42) 48(-2.54,-58.42) 49(0,-60.96) 50(-2.54,-60.96) 51(0,-63.5) 52(-2.54,-63.5) 53(0,-66.04) 54(-2.54,-66.04) 55(0,-68.58) 56(-2.54,-68.58) 57(0,-71.12) 58(-2.54,-71.12) 59(0,-73.66) 60(-2.54,-73.66) 61(0,-76.2) 62(-2.54,-76.2) 63(0,-78.74) 64(-2.54,-78.74) 65(0,-81.28) 66(-2.54,-81.28) 67(0,-83.82) 68(-2.54,-83.82) 69(0,-86.36) 70(-2.54,-86.36)
F.SilkS:
  lines w0.254: 0,1.33 1.33,1.33 1.33,0 ; -3.87,-87.69 1.33,-87.69 1.33,-1.27 -1.27,-1.27 -1.27,1.33 -3.87,1.33 -3.87,-87.69
Top Assembly:
  lines w0.254: -3.81,-87.63 1.27,-87.63 1.27,0.27 0.27,1.27 -3.81,1.27 -3.81,-87.63
  text "'.Designator'" at -0.43,-47.227 h1
Top Courtyard:
  lines w0.254: -4.34,-88.1 1.76,-88.1 1.76,1.8 -4.34,1.8 -4.34,-88.1
Top Designator:
  text ".Designator" at -8.908,-43.658 h1.52